# EAGLE library part DRV8871 (library drive_ctrl)
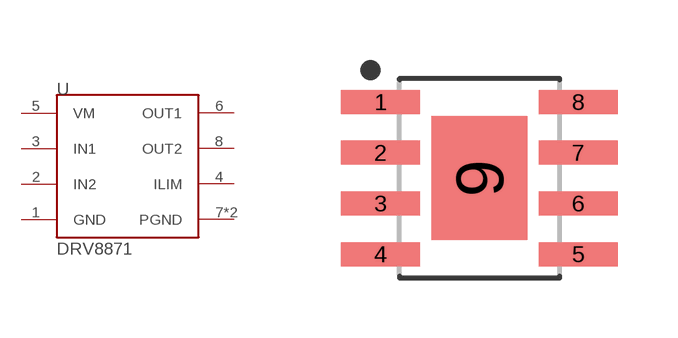
[diagram p1: symbol with the pads of SOIC127P600X170-9T240X310N; footprint SOIC127P600X170-9T240X310N]

Designator prefix U

## DRV8871HSOP-8  [SOIC127P600X170-9T240X310N]
1  GND  pwr
2  IN2  in
3  IN1  in
4  ILIM  pas
5  VM  pwr
6  OUT1  out
7  PGND  pwr
8  OUT2  out
9  PGND  pwr

## Footprint SOIC127P600X170-9T240X310N (pad centres in mm)
8-SOIC, 1.27 mm pitch, 6.00 mm span, 4.90 X 3.90 X 1.70 mm body, 3.10 X 2.40 mm thermal pad 8-pin SOIC package with 1.27 mm pitch, 6.00 mm span with body size 4.90 X 3.90 X 1.70 mm and thermal pad size 3.10 X 2.40 mm
smd 1.968 x 0.599: 1 -2.473,1.905; 2 -2.473,0.635; 3 -2.473,-0.635; 4 -2.473,-1.905; 5 2.473,-1.905; 6 2.473,-0.635; 7 2.473,0.635; 8 2.473,1.905
smd 2.4 x 3.1: 9 0,0